# Altium schematic symbol library MPL3115A2.SchLib: 1 symbol
Pins are listed as number, name and electrical type; pins without a type are passive.

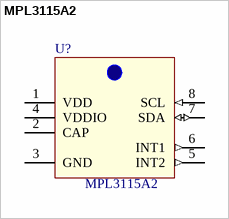
[diagram p0: symbol MPL3115A2]

## MPL3115A2
designator U?
value: MPL3115A2
pins: 1 VDD (power), 2 CAP, 3 GND (power), 4 VDDIO (power), 5 INT2 (out), 6 INT1 (out), 7 SDA (io), 8 SCL (in)